# Altium footprint library Vending.PcbLib: 12 footprints
Each footprint in its own frame and in the unit in brackets; x right, y up, seen from the top. Pads: shape width x height; smd on the part's side, far side on the other; paste and mask are expansions set on the pad; w line width, h text height; cw(c..) or ccw(c..) is an arc to the next point about the centre after c.
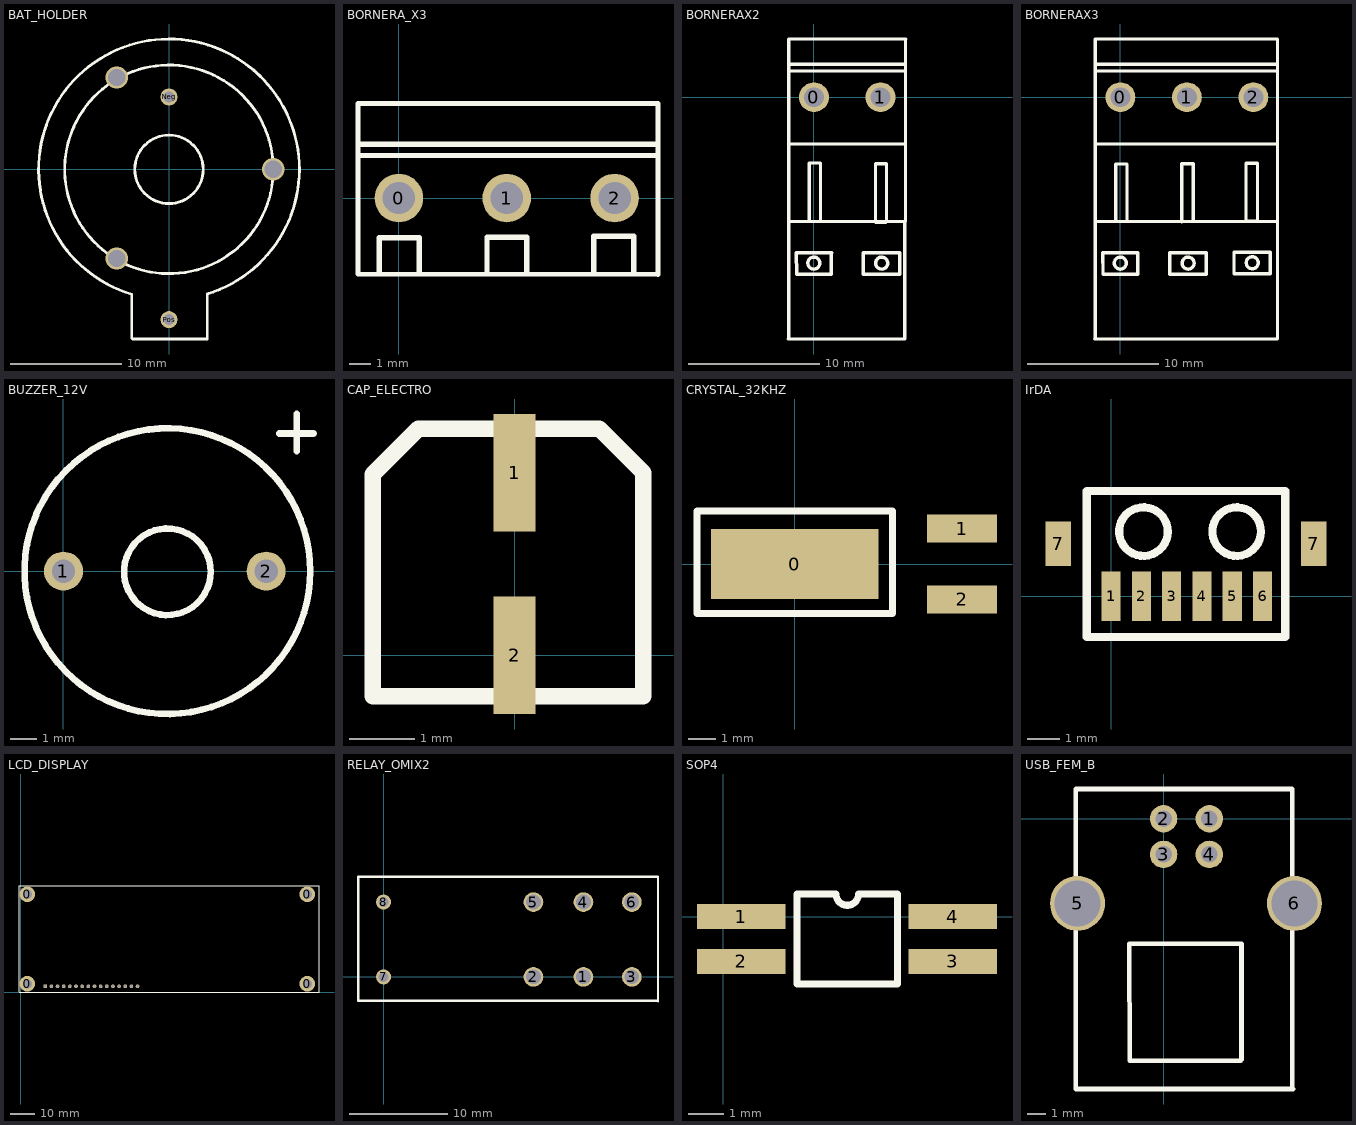
[diagram p0: the footprints below, top view; thin cyan lines are the x and y axes]

## BAT_HOLDER [mm] "Coin Battery Holder"
height 2
pads (2):
  round 1.524 hole 1: Neg(0,6.5) Pos(0,-13.5)
via 9.37,0 diameter 2 hole 1.55
via -4.699,8.255 diameter 2 hole 1.55
via -4.699,-8.001 diameter 2 hole 1.55
Top Overlay:
  circle w0.254: c0,0 r9.37
  circle w0.254: c0,0 r3.074
  lines w0.254: -3.353,-15.164 -3.353,-11.219 cw(c0,0) 3.434,-11.194 3.434,-15.235 3.429,-15.24 -3.276,-15.24 -3.353,-15.164

## BORNERA_X3 [mil]
height 492.13
pads (3):
  round 90 hole 60: 0(0,0) 1(200,0) 2(400,0)
Top Overlay:
  lines w10: -75.79,78.74 480.31,78.74 379.92,78.74 ; -75.79,99.41 480.31,99.41 ; -36.42,-140.75 -36.42,-73.82 37.4,-73.82 37.4,-140.75 ; 163.39,-139.76 163.39,-72.83 237.2,-72.83 237.2,-139.76 ; 361.22,-137.8 361.22,-70.87 435.04,-70.87 435.04,-137.8 ; -75.79,-140.75 480.31,-141.73 480.31,175.2 276.57,175.2 -75.79,175.2 -75.79,-140.75

## BORNERAX2 [mil]
height 300
pads (2):
  round 90 hole 60: 0(0,0) 1(200,0)
Top Overlay:
  circle w10: c203.71,-499 r18.07
  lines w10: -75.79,78.74 273.62,78.74 275.59,80.71 ; -75.79,99.41 271.65,99.41 ; 17.72,-499.02 cw(c-0.35,-499.02) 17.69,-498.01 ; 257.85,-468.49 257.85,-467.5 ; -75.79,-374.02 -75.79,-140.75 ; -75.79,-374.02 -75.79,-374.02 ; -75.79,-374.02 273.62,-374.02 ; -75.79,-374.02 -75.79,-725.39 -77.76,-727.36 272.64,-727.36 273.62,-726.38 273.62,-374.02 ; -75.79,-140.75 275.59,-140.75 ; -75.79,-140.75 -75.79,175.2 276.57,175.2 275.59,174.21 275.59,-140.75 ; 257.85,-467.5 148.59,-467.5 148.59,-532.46 257.85,-532.46 257.85,-467.5 ; 273.62,-374.02 275.59,-372.05 275.59,-140.75 ; -53.18,-467.5 53.12,-467.5 52.14,-467.5 52.14,-532.46 2.92,-532.46 -52.19,-532.46 -53.18,-467.5 ; -13.78,-373.03 -13.78,-197.83 19.68,-197.83 19.68,-372.05 17.72,-374.02 -12.8,-374.02 -13.78,-373.03 ; 185.04,-375 185.04,-199.8 218.5,-199.8 218.5,-374.02 216.54,-375.98 186.02,-375.98 185.04,-375

## BORNERAX3 [mil]
pads (3):
  round 90 hole 60: 0(0,0) 1(200,0) 2(400,0)
Top Overlay:
  circle w10: c396.63,-498.01 r18.07
  circle w10: c203.71,-499 r18.07
  lines w10: -75.79,78.74 468.5,78.74 ; -75.79,99.41 467.52,99.41 ; 17.72,-499.02 cw(c-0.35,-499.02) 17.69,-498.01 ; 257.85,-468.49 257.85,-467.5 ; 450.76,-467.5 450.76,-466.52 ; -75.79,-374.02 -75.79,-140.75 ; -75.79,-374.02 -75.79,-374.02 ; -75.79,-374.02 472.44,-375 ; -75.79,-374.02 -75.79,-725.39 -77.76,-727.36 272.64,-727.36 472.44,-727.36 472.44,-375 ; -75.79,-140.75 472.44,-140.75 ; -75.79,-140.75 -75.79,175.2 276.57,175.2 472.44,175.2 472.44,-140.75 ; 257.85,-467.5 148.59,-467.5 148.59,-532.46 257.85,-532.46 257.85,-467.5 ; 450.76,-466.52 341.51,-466.52 341.51,-531.48 450.76,-531.48 450.76,-466.52 ; 472.44,-375 472.44,-371.06 472.44,-140.75 ; -53.18,-467.5 53.12,-467.5 52.14,-467.5 52.14,-532.46 2.92,-532.46 -52.19,-532.46 -53.18,-467.5 ; -13.78,-373.03 -13.78,-200.79 19.68,-200.79 19.68,-372.05 17.72,-374.02 -12.8,-374.02 -13.78,-373.03 ; 185.04,-375 185.04,-199.8 219.49,-199.8 219.49,-374.02 216.54,-374.02 186.02,-374.02 185.04,-375 ; 377.95,-374.02 377.95,-198.82 412.4,-198.82 412.4,-373.03 409.45,-373.03 378.94,-373.03 377.95,-374.02

## BUZZER_12V [mm]
height 5
pads (2):
  round 1.5 hole 0.9: 1(0,0) 2(7.8,0)
Top Overlay:
  circle w0.254: c4,0 r5.5
  circle w0.254: c4,-0.025 r1.668
  lines w0.254: 8.3,5.3 9.625,5.3 ; 8.975,4.625 8.975,6.05

## CAP_ELECTRO [mm] "SMD ELECTROLYTIC CAPACITOR"
height 5
pads (2):
  rect 0.65x1.8 smd: 1(0,2.8) 2(0,0)
Top Overlay:
  lines w0.254: -2.175,-0.625 -2.175,2.775 -1.475,3.475 1.3,3.475 1.975,2.8 1.975,-0.625 -2.175,-0.625

## CRYSTAL_32KHZ [mm]
height 2
pads (3):
  rect 6x2.5 smd: 0(0,0)
  rect 2.5x1 smd: 1(6,1.27) 2(6,-1.27)
Top Overlay:
  lines w0.254: 3.475,1.9 -3.5,1.9 -3.5,-1.775 3.5,-1.775 3.5,1.9

## IrDA [mm]
height 5
pads (9):
  rect 0.6x1.55 smd: 1(0,0) 1(0,0) 2(0.95,0) 3(1.9,0) 4(2.85,0) 5(3.8,0) 6(4.75,0)
  rect 0.8x1.4 smd: 7(-1.651,1.651) 7(6.35,1.651)
Top Overlay:
  circle w0.254: c1.016,2.032 r0.762
  circle w0.254: c3.937,2.032 r0.762
  lines w0.254: -0.762,-1.27 -0.762,3.302 5.461,3.302 5.461,-1.27 -0.762,-1.27

## LCD_DISPLAY [mm] "Alphanumeric 2 x 20 LCD Display."
height 3.81
pads (20):
  round 6.5 hole 3.75: 0(2.8,3.525) 0(2.8,40.513) 0(118.375,3.538) 0(118.375,40.513)
  round 1.524 hole 1: 1(43.205,2.5) 2(40.665,2.5) 3(38.125,2.5) 4(35.585,2.5) 5(33.045,2.5) 6(30.505,2.5) 7(27.965,2.5) 8(25.425,2.5) 9(22.885,2.5) 10(20.345,2.5) 11(17.805,2.5) 12(15.265,2.5) 13(12.725,2.5) 15(45.745,2.5) 16(48.285,2.5)
  rect 1.524x1.524 hole 1: 14(10.175,2.514)
Top Overlay:
  lines w0.254: -0.65,0.175 -0.65,43.95 70.993,43.942 123.19,43.942 123.19,0.127 -0.575,0.15

## RELAY_OMIX2 [mm] "2 Pole Miniature Power PCB Relay"
height 0.021
pads (8):
  round 2 hole 1.5: 1(20.32,0) 2(15.24,0) 3(25.24,0) 4(20.32,7.6) 5(15.24,7.6) 6(25.24,7.6)
  round 1.524 hole 1: 7(0,0) 8(0,7.6)
Top Overlay:
  lines w0.254: -2.6,-2.45 -2.575,-2.35 -2.575,10.175 27.9,10.175 27.9,-2.475 27.875,-2.45 -2.6,-2.45

## SOP4 [mm]
height 2
pads (4):
  rect 2.5x0.7 smd: 1(0.508,0) 2(0.508,-1.27) 3(6.477,-1.27) 4(6.477,0)
Top Overlay:
  lines w0.2: 2.085,-1.905 2.085,0.635 3.183,0.635 ccw(c3.5,0.635) 3.818,0.635 4.915,0.635 4.915,-1.905 2.085,-1.905

## USB_FEM_B [mil] "USB Type B Receptacle Connector"
height 500
pads (6):
  round 60 hole 36: 1(100,0) 2(0,0) 3(0,-78) 4(100,-78)
  round 120 hole 100: 5(-188,-185) 6(286,-185)
Top Overlay:
  lines w10: -191.93,-590.55 -191.93,64.96 281.5,64.96 281.5,-588.58 283.46,-590.55 -191.93,-590.55 ; -74.8,-273.62 -73.82,-528.54 168.31,-528.54 170.28,-526.57 170.28,-273.62 -74.8,-273.62